# Altium schematic symbol library MBS1.Schlib: 1 symbol
Pins are listed as number, name and electrical type; pins without a type are passive.

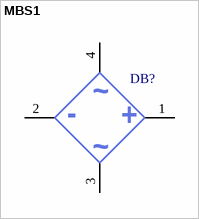
[diagram p0: symbol MBS1]

## MBS1
designator DB?, comment DB  (value not drawn)
pins: 1 +, 2 -, 3 Sin, 4 Sin
text: ~